# EAGLE library part 776275-1 (library 776275-1)
Body Features: Primary Product Color Black | Connector & Keying Code 1 | Configuration Features: Number of Positions 8 | Number of Rows 3 | PCB Mount Orientation Vertical | Contact Features: Contact Mating Area Plating Material Tin | Contact Current Rating (Max) 8 AMP | Contact Type Pin | Housing Features: Centerline (Pitch) .157 INCH | Centerline (Pitch) 4 MM | Industry Standards: UL Flammability Rating UL 94V-0 | Mechanical Attachment: Mating Alignment With | PCB Mount Alignment With | PCB Mount Retention Source: Datasheet <https://www.te.com/commerce/DocumentDelivery/DDEController?Action=srchrtrv&DocNm=1-1773979-2&DocType=Data Sheet&DocLang=English&PartCntxt=776275-1&DocFormat=pdf>
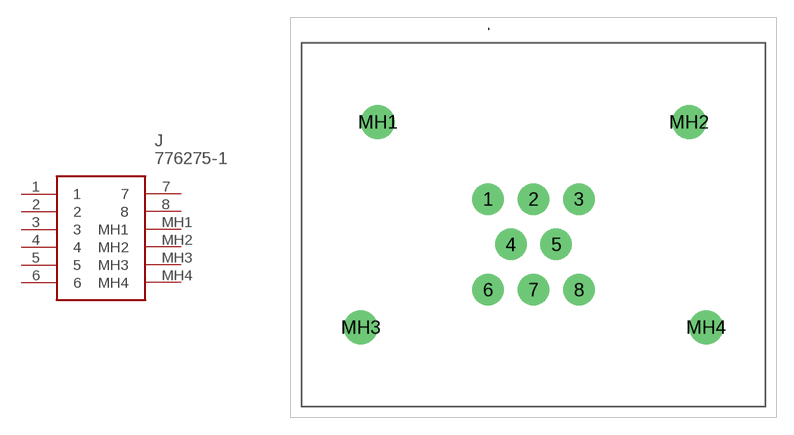
[diagram p0: symbol with the pads of 7762751; footprint 7762751]

Designator prefix J

## 776275-1 (Description: Body Features: Primary Product Color Black | Connector & Keying Code 1 | Configuration Features: Number of Positions 8 | Number of Rows 3 | PCB Mount Orientation Vertical | Contact Features: Contact Mating Area Plating Material Tin | Contact Current Rating (Max) 8 AMP | Contact Type Pin | Housing Features: Centerline (Pitch) .157 INCH | Centerline (Pitch) 4 MM | Industry Standards: UL Flammability Rating UL 94V-0 | Mechanical Attachment: Mating Alignment With | PCB Mount Alignment With | PCB Mount Retention; Height: 34.5mm; Manufacturer_Name: TE Connectivity; Manufacturer_Part_Number: 776275-1; Mouser_Part_Number: 571-776275-1; Mouser_Price-Stock: https://www.mouser.co.uk/ProductDetail/TE-Connectivity/776275-1?qs=tLAa1RwIH6f8ivWehpoZzA%3D%3D)  [7762751]
1  1
2  2
3  3
4  4
5  5
6  6
7  7
8  8
MH1  MH1
MH2  MH2
MH3  MH3
MH4  MH4

## Footprint 7762751 (pad centres in mm)
776275-1-3
drill 1.85 pad 2.775: 1 0,0; 2 4,0; 3 8,0; 4 2,-4; 5 6,-4; 6 0,-8; 7 4,-8; 8 8,-8
drill 2 pad 3: MH1 -9.7,6.8; MH2 17.7,6.8; MH3 -11.2,-11.3; MH4 19.2,-11.3